# Altium schematic symbol library Molex 503398-1892.SchLib: 1 symbol
Pins are listed as number, name and electrical type; pins without a type are passive.

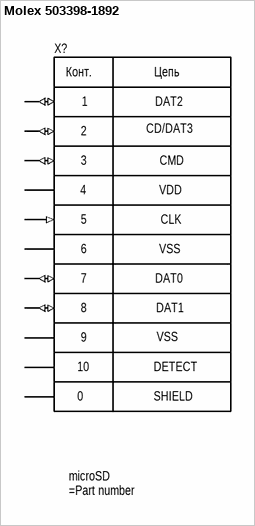
[diagram p0: symbol Molex 503398-1892]

## Molex 503398-1892
designator X?  CommentText: microSD
footprint CON:MICROSD:HYC77TF09200
pins: 0 SHIELD (power), 1 DAT2 (io), 2 CD/DAT3 (io), 3 CMD (io), 4 VDD (power), 5 CLK (in), 6 VSS (power), 7 DAT0 (io), 8 DAT1 (io), 9 CD (power), 10 DETECT (power)
text: Конт.; Цепь